# Altium footprint library NRS8040T3R6NJGJ.PcbLib: 1 footprints
Each footprint in its own frame and in the unit in brackets; x right, y up, seen from the top. Pads: shape width x height; smd on the part's side, far side on the other; paste and mask are expansions set on the pad; w line width, h text height; cw(c..) or ccw(c..) is an arc to the next point about the centre after c.
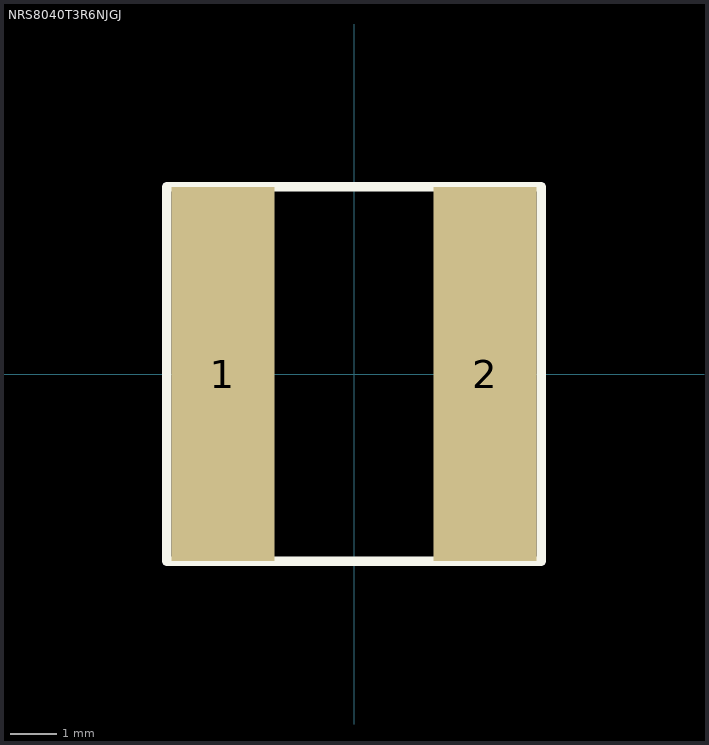
[diagram p0: the footprint, top view; thin cyan lines are the x and y axes]

## NRS8040T3R6NJGJ [mm]
height 4.2
pads (2):
  rect 2.2x8 smd: 1(-2.8,0) 2(2.8,0)
Top Overlay:
  lines w0.2: -4,-4 4,-4 4,4 -4,4 -4,-4
Top Assembly:
  lines w0.15: -4,-4 4,-4 4,4 -4,4 -4,-4
  text "'.Designator'" at -0.675,-0.375 h0.8
3D body "NRS8040T3R6NJGJ.stp": height 4.2, standoff 0, extent -4,-4 4,4